# EAGLE library part NSJ12HF-1 (library con_neutrik_ag__Jack6,35)
Stereo dual jack, full threaded nose The 1/4" stacking jack features highest board packing density as two jacks are in a single footprint and as they fit in 1 RU.
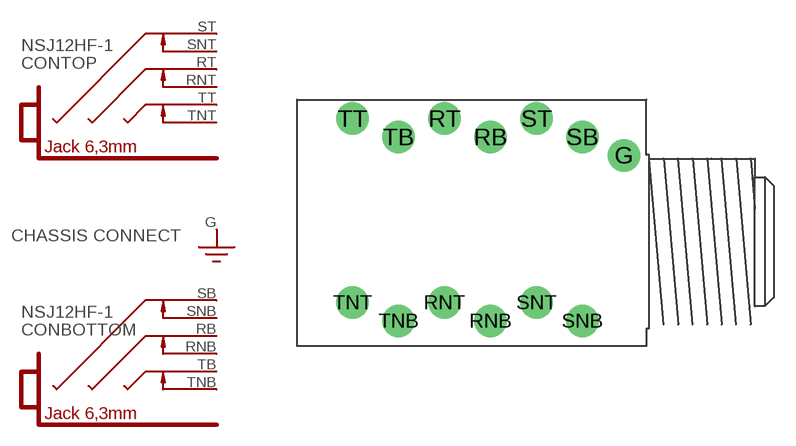
[diagram p18: symbol with the pads of NSJ12HF-1; footprint NSJ12HF-1]

Designator prefix CON; gates TOP=N*J6** BOTTOM=N*J6** G$3=CASSIS_CONNECT

## NSJ12HF-1  [NSJ12HF-1]
G  G$3:G  pas
RB  BOTTOM:R  pas
RNB  BOTTOM:RN  pas
RNT  TOP:RN  pas
RT  TOP:R  pas
SB  BOTTOM:S  pas
SNB  BOTTOM:SN  pas
SNT  TOP:SN  pas
ST  TOP:S  pas
TB  BOTTOM:T  pas
TNB  BOTTOM:TN  pas
TNT  TOP:TN  pas
TT  TOP:T  pas

## Footprint NSJ12HF-1 (pad centres in mm)
drill 1.5 round: G -1.73,5.96; RB -10.95,7.23; RNB -10.95,-5.47; RNT -14.13,-4.2; RT -14.13,8.5; SB -4.61,7.23; SNB -4.61,-5.47; SNT -7.78,-4.2; ST -7.78,8.5; TB -17.3,7.23; TNB -17.3,-5.47; TNT -20.48,-4.2; TT -20.48,8.5